# Altium footprint library PcbLib1.PcbLib: 13 footprints
Each footprint in its own frame and in the unit in brackets; x right, y up, seen from the top. Pads: shape width x height; smd on the part's side, far side on the other; paste and mask are expansions set on the pad; w line width, h text height; cw(c..) or ccw(c..) is an arc to the next point about the centre after c.
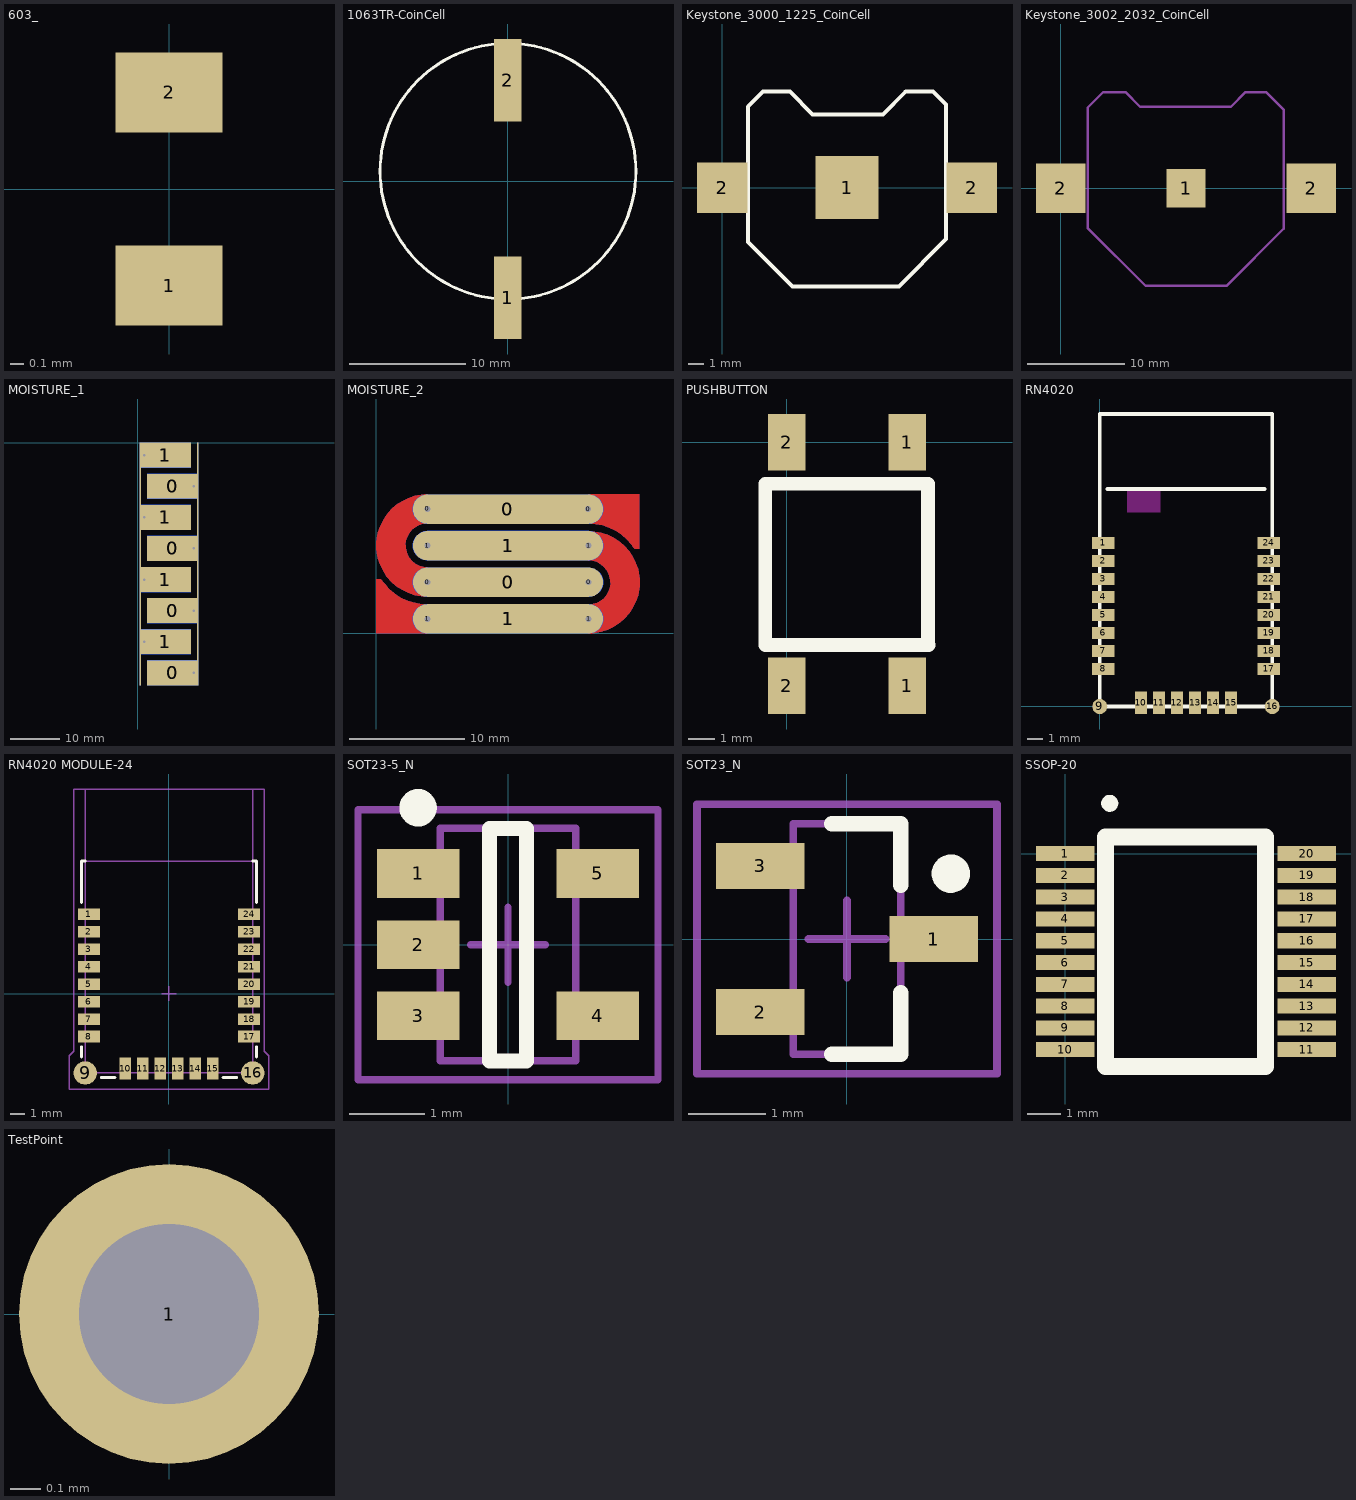
[diagram p0: the footprints below, top view; thin cyan lines are the x and y axes]

## 603_ [mm]
pads (2):
  rect 0.8x0.6 smd: 1(0,-0.725) 2(0,0.725)

## 1063TR-CoinCell [mm]
pads (2):
  rect 2.36x7.1 smd: 1(0,-10) 2(0,8.7)
Top Overlay:
  circle w0.254: c0.025,0.875 r11

## Keystone_3000_1225_CoinCell [mm]
pads (3):
  rect 3.96x3.96 smd: 1(7.87,0)
  rect 3.18x3.18 smd: 2(0,0) 2(15.74,0)
Top Overlay:
  lines w0.254: 1.625,-3.425 1.625,0 1.625,5.1 2.575,6.05 4.275,6.05 5.7,4.625 10.15,4.625 11.575,6.05 13.3,6.05 14.12,5.23 14.12,0 14.12,-3.255 11.15,-6.225 4.425,-6.225 1.625,-3.425

## Keystone_3002_2032_CoinCell [mm]
pads (3):
  rect 3.96x3.96 smd: 1(12.825,0)
  rect 5.08x5.08 smd: 2(0,0) 2(25.65,0)
Mechanical 11:
  lines w0.254: 2.75,-4.05 2.75,8.25 4.35,9.85 6.625,9.85 8.125,8.35 17.425,8.35 18.925,9.85 21.025,9.85 22.825,8.05 22.825,-4.15 16.975,-10 8.7,-10 2.75,-4.05

## MOISTURE_1 [mil]
pads (28):
  rect 410x200 smd paste-400: 0(280,-1850) 0(280,-1350) 0(280,-850) 0(280,-350) 1(220,-1600) 1(220,-1100) 1(220,-600) 1(220,-100)
  rect 410x200 smd far side paste-400: 0(280,-1850) 0(280,-1350) 0(280,-850) 0(280,-350) 1(220,-1600) 1(220,-1100) 1(220,-600) 1(220,-100)
  round 30 hole 20 unplated: 0(450,-1850) 0(450,-1350) 0(450,-850) 0(450,-350) 1(50,-1600) 1(50,-1100) 1(50,-600) 1(50,-100)
  rect 10x1950 smd paste-400: 0(480,-975) 1(20,-975)
  rect 10x1950 smd far side paste-400: 0(480,-975) 1(20,-975)

## MOISTURE_2 [mil]
pads (16):
  round 30 hole 20: 0(175,175.13) 0(175.01,425.36) 0(723.63,424.77) 0(725,175) 1(175,300) 1(175,49.88) 1(725,49.64) 1(725,299.87)
  oval 650x100 smd paste-1000: 0(449.93,424.51) 0(450,175) 1(450,50) 1(450,300)
  oval 650x100 smd far side paste-1000: 0(449.93,424.51) 0(450,175) 1(450,50) 1(450,300)
Top Layer:
  region: 723.64,374.66 730.29,374.76 750.24,373.51 773.68,368.84 796.32,361.16 817.76,350.58 837.64,337.3 855.61,321.54 871.84,302.62 876.55,295.78 876.56,295.78 882.97,290.02 898.64,290.02 898.64,299.66 898.64,474.66 723.64,474.66
  region: 175,125.25 163.93,125.39 131.19,130.91 109.2,138.37 88.38,148.64 69.07,161.55 51.61,176.86 36.3,194.32 23.39,213.63 13.12,234.45 5.66,256.44 0.14,289.18 0,300.25 0.14,311.32 5.66,344.06 13.12,366.05 23.4,386.88 36.3,406.19 51.61,423.65 69.07,438.96 88.38,451.86 109.21,462.13 131.2,469.6 163.93,475.12 175,475.25 175,375.25 171,375.34 159.02,374.21 145.18,370.01 132.42,363.19 121.24,354.02 112.06,342.84 105.25,330.08 101.05,316.24 99.92,304.26 100,300.25 100.16,293.12 105.48,272.43 112.6,259.11 122.18,247.43 133.86,237.85 147.18,230.73 167.87,225.41 175,225.25
  region: 725,349.75 736.07,349.61 768.81,344.09 790.8,336.63 811.62,326.36 830.93,313.45 848.39,298.14 863.7,280.68 876.6,261.37 886.88,240.55 894.34,218.56 899.86,185.82 900,174.75 899.86,163.68 894.34,130.94 886.88,108.95 876.6,88.12 863.7,68.81 848.39,51.35 830.93,36.04 811.62,23.14 790.79,12.87 768.8,5.4 736.07,-0.12 725,-0.25 725,99.75 729,99.66 740.98,100.79 754.82,104.99 767.58,111.81 778.76,120.98 787.94,132.16 794.75,144.92 798.95,158.76 800.08,170.74 800,174.75 799.84,181.88 794.52,202.57 787.4,215.89 777.82,227.57 766.14,237.15 752.82,244.27 732.13,249.59 725,249.75
  region: 175,100 168.34,99.9 148.4,101.15 124.95,105.82 102.32,113.5 80.88,124.07 61,137.35 43.03,153.12 30.18,167.83 26.27,173.04 15.67,184.64 0,184.64 0,175 0,0 175,0
Bottom Layer:
  region: 723.64,374.66 730.29,374.76 750.24,373.51 773.68,368.84 796.32,361.16 817.76,350.58 837.64,337.3 855.61,321.54 871.84,302.62 876.56,295.78 882.97,290.02 898.64,290.02 898.64,299.66 898.64,474.66 723.64,474.66
  region: 175,125.25 163.93,125.39 131.19,130.91 109.2,138.37 88.38,148.64 69.07,161.55 51.61,176.86 36.3,194.32 23.39,213.63 13.12,234.45 5.66,256.44 0.14,289.18 0,300.25 0.14,311.32 5.66,344.06 13.12,366.05 23.4,386.88 36.3,406.19 51.61,423.65 69.07,438.96 88.38,451.86 109.21,462.13 131.2,469.6 163.93,475.12 175,475.25 175,375.25 171,375.34 159.02,374.21 145.18,370.01 132.42,363.19 121.24,354.02 112.06,342.84 105.25,330.08 101.05,316.24 99.92,304.26 100,300.25 100.16,293.12 105.48,272.43 112.6,259.11 122.18,247.43 133.86,237.85 147.18,230.73 167.87,225.41 175,225.25
  region: 725,349.75 736.07,349.61 768.81,344.09 790.8,336.63 811.62,326.36 830.93,313.45 848.39,298.14 863.7,280.68 876.6,261.37 886.88,240.55 894.34,218.56 899.86,185.82 900,174.75 899.86,163.68 894.34,130.94 886.88,108.95 876.6,88.12 863.7,68.81 848.39,51.35 830.93,36.04 811.62,23.14 790.79,12.87 768.8,5.4 736.07,-0.12 725,-0.25 725,99.75 729,99.66 740.98,100.79 754.82,104.99 767.58,111.81 778.76,120.98 787.94,132.16 794.75,144.92 798.95,158.76 800.08,170.74 800,174.75 799.84,181.88 794.52,202.57 787.4,215.89 777.82,227.57 766.14,237.15 752.82,244.27 732.13,249.59 725,249.75
  region: 175,100 168.34,99.9 148.4,101.15 124.95,105.82 102.32,113.5 80.88,124.07 61,137.35 43.03,153.12 30.18,167.83 26.27,173.04 15.67,184.64 0,184.64 0,175 0,0 175,0

## PUSHBUTTON [mm] "TE 5-1437565-0"
pads (4):
  rect 1.4x2.1 smd: 1(4.5,-9.1) 1(4.5,0) 2(0,-9.1) 2(0,0)
Top Overlay:
  lines w0.508: -0.8,-7.575 -0.8,-1.55 5.275,-1.55 5.275,-7.55 5.3,-7.575 -0.8,-7.575

## RN4020 [mm]
pads (24):
  rect 1.5x0.8 smd: 1(0.25,10.9) 2(0.25,9.7) 3(0.25,8.5) 4(0.25,7.3) 5(0.25,6.1) 6(0.25,4.9) 7(0.25,3.7) 8(0.25,2.5) 17(11.25,2.5) 18(11.25,3.7) 19(11.25,4.9) 20(11.25,6.1) 21(11.25,7.3) 22(11.25,8.5) 23(11.25,9.7) 24(11.25,10.9)
  round 1 smd: 9(0,0) 16(11.5,0)
  rect 0.8x1.5 smd: 10(2.75,0.25) 11(3.95,0.25) 12(5.15,0.25) 13(6.35,0.25) 14(7.55,0.25) 15(8.75,0.25)
Top Overlay:
  lines w0.254: 0.5,14.5 11,14.5 ; 0,0 11.5,0 11.5,19.5 0,19.5 0,0
Keep-Out Layer:
  region: 1.85,12.95 4.05,12.95 4.05,14.525 4.025,14.55 1.85,14.55

## RN4020 MODULE-24 [mm]
pads (24):
  rect 1.5x0.8 smd: 1(-5.5,5.45) 2(-5.5,4.25) 3(-5.5,3.05) 4(-5.5,1.85) 5(-5.5,0.65) 6(-5.5,-0.55) 7(-5.5,-1.75) 8(-5.5,-2.95) 17(5.5,-2.95) 18(5.5,-1.75) 19(5.5,-0.55) 20(5.5,0.65) 21(5.5,1.85) 22(5.5,3.05) 23(5.5,4.25) 24(5.5,5.45)
  round 1.6 smd: 9(-5.75,-5.45) 16(5.75,-5.45)
  rect 0.8x1.5 smd: 10(-3,-5.15) 11(-1.8,-5.15) 12(-0.6,-5.15) 13(0.6,-5.15) 14(1.8,-5.15) 15(3,-5.15)
Top Overlay:
  lines w0.2: -6,-4.35 -6,-3.65 ; -6,6.25 -6,9.1 -5.75,9.1 ; -4.65,-5.75 -3.7,-5.75 ; 3.7,-5.75 4.65,-5.75 ; 5.75,9.1 6,9.1 6,6.25 ; 6,-4.35 6,-3.65
Mechanical 11:
  lines w0.1: -5.75,9.1 5.75,9.1 ; -5.75,-5.45 -5.75,14.05 5.75,14.05 5.75,-5.45 -5.75,-5.45
Mechanical 15:
  lines w0.1: -0.5,0 0.5,0 ; 0,-0.5 0,0.5 ; -6.85,-6.55 -6.85,-4.25 -6.55,-3.95 -6.55,14.05 6.55,14.05 6.55,-3.95 6.85,-4.25 6.85,-6.55 -6.85,-6.55
3D body: height 2.3, standoff 0.8, extent -4.95,-4.95 4.95,9.55
3D body: height 0.8, standoff 0, extent -5.75,-5.45 5.75,14.05

## SOT23-5_N [mm] "SOT23, 6-Leads, Body 2.9x1.6mm, Pitch 0.95mm, Lead Span 2.7mm, IPC Medium Density"
height 1.45
pads (5):
  rect 1.1x0.65 smd: 1(-1.2,0.95) 2(-1.2,0) 3(-1.2,-0.95) 4(1.2,-0.95) 5(1.2,0.95)
Top Overlay:
  circle w0.25: c-1.2,1.825 r0.125
  lines w0.2: -0.25,-1.55 0.25,-1.55 0.25,1.55 -0.25,1.55 -0.25,-1.55
Mechanical 13:
  lines w0.1: -0.9,-1.55 -0.9,1.55 0.9,1.55 0.9,-1.55 -0.9,-1.55
Mechanical 15:
  lines w0.1: -0.5,0 0.5,0 ; 0,-0.5 0,0.5 ; -2,-1.8 -2,1.8 2,1.8 2,-1.8 -2,-1.8
3D body: height 1.45, standoff 0, extent -0.9,-1.55 0.9,1.55

## SOT23_N [mm] "SOT23, 3-Leads, Body 2.9x1.3mm, Pitch 0.95mm, Lead Span 2.3mm - Reverse Pinning, IPC Medium Density"
height 1.1
pads (3):
  rect 1.15x0.6 smd: 1(1.125,0) 2(-1.125,-0.95) 3(-1.125,0.95)
Top Overlay:
  circle w0.25: c1.35,0.85 r0.125
  lines w0.2: -0.2,-1.5 0.7,-1.5 0.7,-0.7 ; -0.2,1.5 0.7,1.5 0.7,0.7
Mechanical 13:
  lines w0.1: -0.7,-1.5 -0.7,1.5 0.7,1.5 0.7,-1.5 -0.7,-1.5
Mechanical 15:
  lines w0.1: -0.5,0 0.5,0 ; 0,-0.5 0,0.5 ; -1.95,-1.75 -1.95,1.75 1.95,1.75 1.95,-1.75 -1.95,-1.75
3D body: height 1.1, standoff 0, extent -0.7,-1.5 0.7,1.5

## SSOP-20 [mm]
pads (20):
  rect 1.75x0.45 smd: 1(0,0) 2(0,-0.65) 3(0,-1.3) 4(0,-1.95) 5(0,-2.6) 6(0,-3.25) 7(0,-3.9) 8(0,-4.55) 9(0,-5.2) 10(0,-5.85) 11(7.2,-5.85) 12(7.2,-5.2) 13(7.2,-4.55) 14(7.2,-3.9) 15(7.2,-3.25) 16(7.2,-2.6) 17(7.2,-1.95) 18(7.2,-1.3) 19(7.2,-0.65) 20(7.2,0)
Top Overlay:
  circle w0.254: c1.325,1.5 r0.127
  lines w0.508: 1.2,-6.35 1.2,0.5 5.975,0.5 5.975,-6.35 1.2,-6.35

## TestPoint [mm]
pads (1):
  round 1 hole 0.6: 1(0,0)